# EAGLE library part BALUN (library WSNlib)
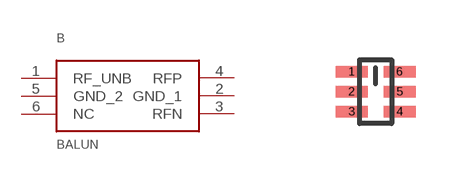
[diagram p2: symbol with the pads of MURATA_LDB_BALUN; footprint MURATA_LDB_BALUN]

Designator prefix B

## BALUNG-TYPE  [MURATA_LDB_BALUN]
1  RF_UNB
2  GND_1
3  RFN
4  RFP
5  GND_2
6  NC

## Footprint MURATA_LDB_BALUN (pad centres in mm)
MURATA_LDB18 footprint
smd 0.8 x 0.3: 1 -0.6,0.5; 2 -0.6,0; 3 -0.6,-0.5; 4 0.6,-0.5; 5 0.6,0; 6 0.6,0.5